# Altium schematic symbol library CVS-3108.SchLib: 1 symbol
Pins are listed as number, name and electrical type; pins without a type are passive.

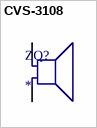
[diagram p0: symbol CVS-3108]

## CVS-3108
designator ZQ?
31.8 mm, Round Frame, 0.1 W, 8 Ohm, Neodymium Magnet, Mylar Cone, Speaker; MF: CUI Devices; Value: *; Package: CUI Inc.; DigiKey-Purchase-URL: https://snapeda.com/shop?store=DigiKey&id=1474279; Arrow_Electronics-Purchase-URL: https://snapeda.com/shop?store=Arrow+Electronics&id=1474279; MP: CVS-3108; CUI_purchase_URL: https://www.cuidevices.com/product/audio/speakers/miniature-(10-mm~40-mm)/cvs-3108?utm_source=snapeda.com&utm_medium=referral&utm_campaign=snapedaBOM; Availability: Good; Price: None; SnapEDA_Link: https://www.snapeda.com/parts/CVS-3108/CUI%20Devices/view-part/1474279/?ref=snap; Mouser-Purchase-URL: https://snapeda.com/shop?store=Mouser&id=1474279
footprint CUI_CVS-3108
pins: N, P